# EAGLE library part FCCART_72 (library FC_connector_2)
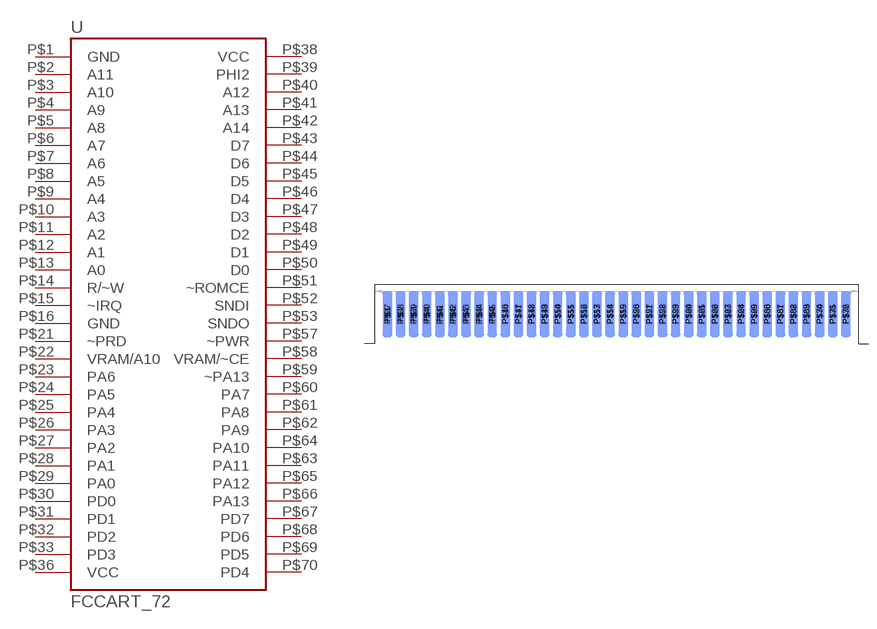
[diagram p1: symbol with the pads of FCCART_72; footprint FCCART_72]

Designator prefix -

## FCCART_72  [FCCART_72]
P$1  GND  sup
P$2  A11  out
P$3  A10  out
P$4  A9  out
P$5  A8  out
P$6  A7  out
P$7  A6  out
P$8  A5  out
P$9  A4  out
P$10  A3  out
P$11  A2  out
P$12  A1  out
P$13  A0  out
P$14  R/~W  out
P$15  ~IRQ  out
P$16  GND  sup
P$21  ~PRD  out
P$22  VRAM/A10  in
P$23  PA6  out
P$24  PA5  out
P$25  PA4  out
P$26  PA3  out
P$27  PA2  out
P$28  PA1  out
P$29  PA0  out
P$30  PD0
P$31  PD1
P$32  PD2
P$33  PD3
P$36  VCC  sup
P$38  VCC  sup
P$39  PHI2  out
P$40  A12  out
P$41  A13  out
P$42  A14  out
P$43  D7  out
P$44  D6  out
P$45  D5  out
P$46  D4  out
P$47  D3  out
P$48  D2  out
P$49  D1  out
P$50  D0  out
P$51  ~ROMCE  out
P$52  SNDI  out
P$53  SNDO  in
P$57  ~PWR  out
P$58  VRAM/~CE  in
P$59  ~PA13  out
P$60  PA7  out
P$61  PA8  out
P$62  PA9  out
P$63  PA11  out
P$64  PA10  out
P$65  PA12  out
P$66  PA13  out
P$67  PD7
P$68  PD6
P$69  PD5
P$70  PD4

## Footprint FCCART_72 (pad centres in mm)
smd 1.905 x 8.89: P$1 -44.45,0.635; P$2 -41.91,0.635; P$3 -39.37,0.635; P$4 -36.83,0.635; P$5 -34.29,0.635; P$6 -31.75,0.635; P$7 -29.21,0.635; P$8 -26.67,0.635; P$9 -24.13,0.635; P$10 -21.59,0.635; P$11 -19.05,0.635; P$12 -16.51,0.635; P$13 -13.97,0.635; P$14 -11.43,0.635; P$15 -8.89,0.635; P$16 -6.35,0.635; P$17 -3.81,0.635; P$18 -1.27,0.635; P$19 1.27,0.635; P$20 3.81,0.635; P$21 6.35,0.635; P$22 8.89,0.635; P$23 11.43,0.635; P$24 13.97,0.635; P$25 16.51,0.635; P$26 19.05,0.635; P$27 21.59,0.635; P$28 24.13,0.635; P$29 26.67,0.635; P$30 29.21,0.635; P$31 31.75,0.635; P$32 34.29,0.635; P$33 36.83,0.635; P$34 39.37,0.635; P$35 41.91,0.635; P$36 44.45,0.635
smd 1.905 x 8.89 bottom: P$37 -44.45,0.635; P$38 -41.91,0.635; P$39 -39.37,0.635; P$40 -36.83,0.635; P$41 -34.29,0.635; P$42 -31.75,0.635; P$43 -29.21,0.635; P$44 -26.67,0.635; P$45 -24.13,0.635; P$46 -21.59,0.635; P$47 -19.05,0.635; P$48 -16.51,0.635; P$49 -13.97,0.635; P$50 -11.43,0.635; P$51 -8.89,0.635; P$52 -6.35,0.635; P$53 -3.81,0.635; P$54 -1.27,0.635; P$55 1.27,0.635; P$56 3.81,0.635; P$57 6.35,0.635; P$58 8.89,0.635; P$59 11.43,0.635; P$60 13.97,0.635; P$61 16.51,0.635; P$62 19.05,0.635; P$63 21.59,0.635; P$64 24.13,0.635; P$65 26.67,0.635; P$66 29.21,0.635; P$67 31.75,0.635; P$68 34.29,0.635; P$69 36.83,0.635; P$70 39.37,0.635; P$71 41.91,0.635; P$72 44.45,0.635